# Altium footprint library QFM-8 (7x5).PcbLib: 1 footprints
Each footprint in its own frame and in the unit in brackets; x right, y up, seen from the top. Pads: shape width x height; smd on the part's side, far side on the other; paste and mask are expansions set on the pad; w line width, h text height; cw(c..) or ccw(c..) is an arc to the next point about the centre after c.
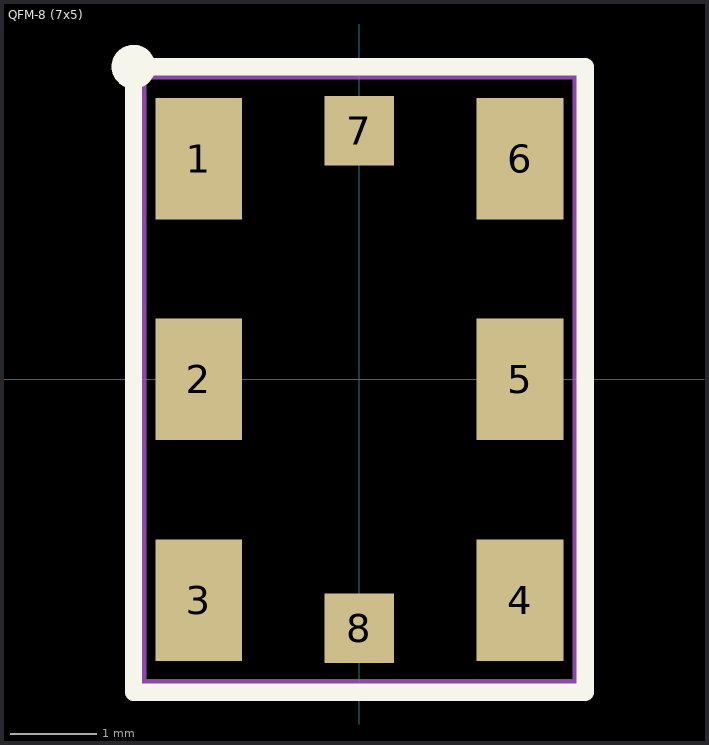
[diagram p0: the footprint, top view; thin cyan lines are the x and y axes]

## QFM-8 (7x5) [mm]
height 1.15
pads (8):
  rect 1x1.4 smd: 1(-1.85,2.54) 2(-1.85,0) 3(-1.85,-2.54) 4(1.85,-2.54) 5(1.85,0) 6(1.85,2.54)
  rect 0.8x0.8 smd: 7(0,2.865) 8(0,-2.865)
Top Overlay:
  circle w0.254: c-2.6,3.6 r0.125
  lines w0.2: -2.6,-3.6 2.6,-3.6 2.6,3.6 -2.6,3.6 -2.6,-3.6
Top Assembly:
  circle w0.254: c-1.85,2.54 r0.125
  lines w0.1: -2.5,-3.5 2.5,-3.5 2.5,3.5 -2.5,3.5 -2.5,-3.5
  text "'.Designator'" at -3.965,-0.292 h0.7
3D body "QFM-8 (7x5).stp": height 1.15, standoff 0, extent -2.5,-3.5 2.5,3.5